# EAGLE library part MCP3008 (library FaBo-ADC)
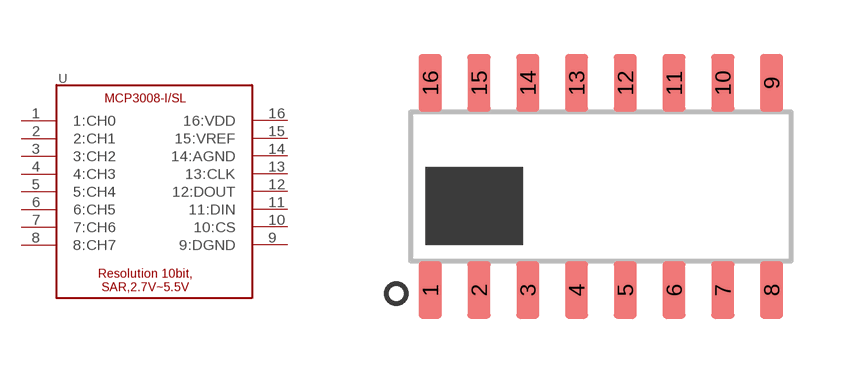
[diagram p4: symbol with the pads of SOIC-16; footprint SOIC-16]

Designator prefix -

## MCP3008  [SOIC-16]
1  1:CH0  in
2  2:CH1  in
3  3:CH2  in
4  4:CH3  in
5  5:CH4  in
6  6:CH5  in
7  7:CH6  in
8  8:CH7  in
9  9:DGND  pwr
10  10:CS  in
11  11:DIN  in
12  12:DOUT  out
13  13:CLK  in
14  14:AGND  pwr
15  15:VREF  in
16  16:VDD  pwr

## Footprint SOIC-16 (pad centres in mm)
smd 0.6 x 1.5: 1 -4.445,-2.7; 2 -3.175,-2.7; 3 -1.905,-2.7; 4 -0.635,-2.7; 5 0.635,-2.7; 6 1.905,-2.7; 7 3.175,-2.7; 8 4.445,-2.7; 9 4.445,2.7; 10 3.175,2.7; 11 1.905,2.7; 12 0.635,2.7; 13 -0.635,2.7; 14 -1.905,2.7; 15 -3.175,2.7; 16 -4.445,2.7